# Altium schematic symbol library SnapEDAsch.SchLib: 1 symbol
Pins are listed as number, name and electrical type; pins without a type are passive.

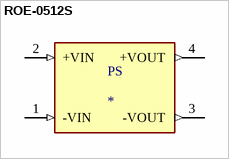
[diagram p0: symbol ROE-0512S]

## ROE-0512S
designator PS
1W DC/DC-Converter 'ECONOLINE' SIP4 1kV unreg; MP: ROE-0512S; MF: Recom Power; SnapEDA_Link: https://www.snapeda.com/parts/ROE-0512S/Recom%20Power/view-part/2768892/?ref=snap; Price: None; Availability: Unavailable; Package: SIP-4 Recom Power; Value: *
footprint CONV_ROE-0512S
pins: 1 -VIN (in), 2 +VIN (in), 3 -VOUT (out), 4 +VOUT (out)